# Altium footprint library Molex Footprints.PcbLib: 498 footprints (part 22 of 32)
Each footprint in its own frame and in the unit in brackets; x right, y up, seen from the top. Pads: shape width x height; smd on the part's side, far side on the other; paste and mask are expansions set on the pad; w line width, h text height; cw(c..) or ccw(c..) is an arc to the next point about the centre after c.
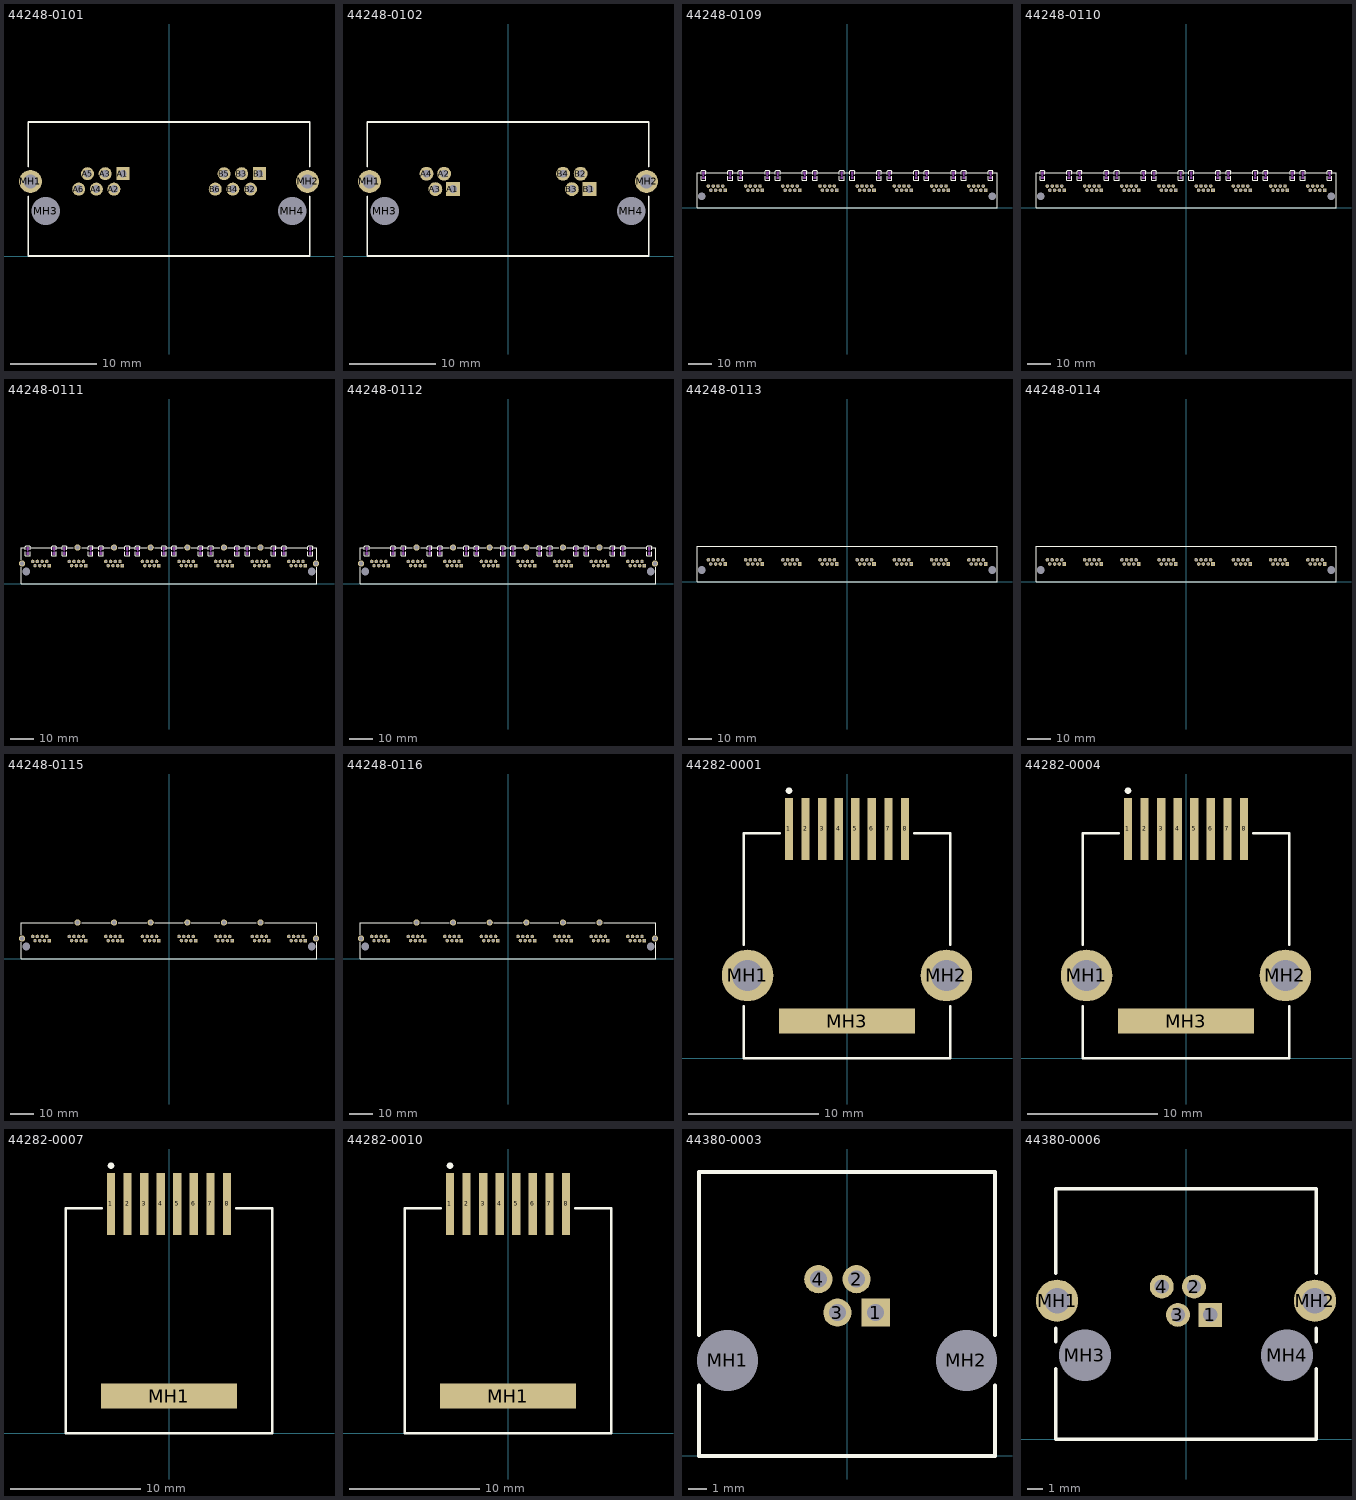
[diagram p21: the footprints below, top view; thin cyan lines are the x and y axes]

## 44248-0101 [mm] "Connector; PCB Jack, Thru-Hole; 2-Port, 6 Positions, 6 Loaded; Shielded without Lightpipes; Right Angle"
height 13.45
pads (16):
  rect 1.5x1.5 hole 0.9: A1(-5.334,9.498) B1(10.414,9.498)
  round 1.5 hole 0.9: A2(-6.35,7.72) A3(-7.366,9.498) A4(-8.382,7.72) A5(-9.398,9.498) A6(-10.414,7.72) B2(9.398,7.72) B3(8.382,9.498) B4(7.366,7.72) B5(6.35,9.498) B6(5.334,7.72)
  round 2.65 hole 1.6: MH1(-15.977,8.609) MH2(15.977,8.609)
  round 2.95 hole 3.25 unplated: MH3(-14.224,5.18) MH4(14.224,5.18)
Top Overlay:
  lines w0.2: -16.249,6.906 -16.249,0 16.249,0 16.249,6.906 ; -16.249,10.312 -16.249,15.47 16.249,15.47 16.249,10.312

## 44248-0102 [mm] "Connector; PCB Jack, Thru-Hole; 2-Port, 6 Positions, 4 Loaded; Shielded without Lightpipes; Right Angle"
height 13.45
pads (12):
  rect 1.6x1.6 hole 0.9: A1(-6.35,7.72) B1(9.398,7.72)
  round 1.6 hole 0.9: A2(-7.366,9.498) A3(-8.382,7.72) A4(-9.398,9.498) B2(8.382,9.498) B3(7.366,7.72) B4(6.35,9.498)
  round 2.65 hole 1.6: MH1(-15.977,8.609) MH2(15.977,8.609)
  round 2.95 hole 3.25 unplated: MH3(-14.224,5.18) MH4(14.224,5.18)
Top Overlay:
  lines w0.2: -16.249,6.906 -16.249,0 16.249,0 16.249,6.906 ; -16.249,10.312 -16.249,15.47 16.249,15.47 16.249,10.312

## 44248-0109 [mm] "Connector; PCB Jack, Thru-Hole; 8-Port, 8 Positions, 8 Loaded; Unshielded with Lightpipes; Right Angle"
height 13.21
pads (66):
  rect 1.5x1.5 hole 0.9: A1(-51.562,7.49) B1(-35.814,7.49) C1(-20.066,7.49) D1(-4.318,7.49) E1(11.43,7.49) F1(27.178,7.49) G1(42.926,7.49) H1(58.674,7.49)
  round 1.5 hole 0.9: A2(-52.578,9.268) A3(-53.594,7.49) A4(-54.61,9.268) A5(-55.626,7.49) A6(-56.642,9.268) A7(-57.658,7.49) A8(-58.674,9.268) B2(-36.83,9.268) B3(-37.846,7.49) B4(-38.862,9.268) B5(-39.878,7.49) B6(-40.894,9.268) B7(-41.91,7.49) B8(-42.926,9.268) C2(-21.082,9.268) C3(-22.098,7.49) C4(-23.114,9.268) C5(-24.13,7.49) C6(-25.146,9.268) C7(-26.162,7.49) C8(-27.178,9.268) D2(-5.334,9.268) D3(-6.35,7.49) D4(-7.366,9.268) D5(-8.382,7.49) D6(-9.398,9.268) D7(-10.414,7.49) D8(-11.43,9.268) E2(10.414,9.268) E3(9.398,7.49) E4(8.382,9.268) E5(7.366,7.49) E6(6.35,9.268) E7(5.334,7.49) E8(4.318,9.268) F2(26.162,9.268) F3(25.146,7.49) F4(24.13,9.268) F5(23.114,7.49) F6(22.098,9.268) F7(21.082,7.49) F8(20.066,9.268) G2(41.91,9.268) G3(40.894,7.49) G4(39.878,9.268) G5(38.862,7.49) G6(37.846,9.268) G7(36.83,7.49) G8(35.814,9.268) H2(57.658,9.268) H3(56.642,7.49) H4(55.626,9.268) H5(54.61,7.49) H6(53.594,9.268) H7(52.578,7.49) H8(51.562,9.268)
  round 2.95 hole 3.25 unplated: MH1(-61.468,4.95) MH2(61.468,4.95)
Top Overlay:
  lines w0.2: -61.782,13.348 -61.782,11.748 -59.782,11.748 -59.782,13.348 ; -61.782,14.231 -61.782,15.631 -61.382,16.031 -60.182,16.031 -59.782,15.631 -59.782,14.231 ; -61.782,14.99 -63.493,14.99 -63.493,0 63.493,0 63.493,14.99 61.782,14.99 ; -59.782,14.99 -50.454,14.99 ; -50.454,13.348 -50.454,11.748 -48.454,11.748 -48.454,13.348 ; -50.454,14.231 -50.454,15.631 -50.054,16.031 -48.854,16.031 -48.454,15.631 -48.454,14.231 ; -48.454,14.99 -46.034,14.99 ; -46.034,13.348 -46.034,11.748 -44.034,11.748 -44.034,13.348 ; -46.034,14.231 -46.034,15.631 -45.634,16.031 -44.434,16.031 -44.034,15.631 -44.034,14.231 ; -44.034,14.99 -34.706,14.99 ; -34.706,13.348 -34.706,11.748 -32.706,11.748 -32.706,13.348 ; -34.706,14.231 -34.706,15.631 -34.306,16.031 -33.106,16.031 -32.706,15.631 -32.706,14.231 ; -32.706,14.99 -30.286,14.99 ; -30.286,13.348 -30.286,11.748 -28.286,11.748 -28.286,13.348 ; -30.286,14.231 -30.286,15.631 -29.886,16.031 -28.686,16.031 -28.286,15.631 -28.286,14.231 ; -28.286,14.99 -18.958,14.99 ; -18.958,13.348 -18.958,11.748 -16.958,11.748 -16.958,13.348 ; -18.958,14.231 -18.958,15.631 -18.558,16.031 -17.358,16.031 -16.958,15.631 -16.958,14.231 ; -16.958,14.99 -14.538,14.99 ; -14.538,13.348 -14.538,11.748 -12.538,11.748 -12.538,13.348 ; -14.538,14.231 -14.538,15.631 -14.138,16.031 -12.938,16.031 -12.538,15.631 -12.538,14.231 ; -12.538,14.99 -3.21,14.99 ; -3.21,13.348 -3.21,11.748 -1.21,11.748 -1.21,13.348 ; -3.21,14.231 -3.21,15.631 -2.81,16.031 -1.61,16.031 -1.21,15.631 -1.21,14.231 ; -1.21,14.99 1.21,14.99 ; 1.21,13.348 1.21,11.748 3.21,11.748 3.21,13.348 ; 1.21,14.231 1.21,15.631 1.61,16.031 2.81,16.031 3.21,15.631 3.21,14.231 ; 3.21,14.99 12.538,14.99 ; 12.538,13.348 12.538,11.748 14.538,11.748 14.538,13.348 ; 12.538,14.231 12.538,15.631 12.938,16.031 14.138,16.031 14.538,15.631 14.538,14.231 ; 14.538,14.99 16.958,14.99 ; 16.958,13.348 16.958,11.748 18.958,11.748 18.958,13.348 ; 16.958,14.231 16.958,15.631 17.358,16.031 18.558,16.031 18.958,15.631 18.958,14.231 ; 18.958,14.99 28.286,14.99 ; 28.286,13.348 28.286,11.748 30.286,11.748 30.286,13.348 ; 28.286,14.231 28.286,15.631 28.686,16.031 29.886,16.031 30.286,15.631 30.286,14.231 ; 30.286,14.99 32.706,14.99 ; 32.706,13.348 32.706,11.748 34.706,11.748 34.706,13.348 ; 32.706,14.231 32.706,15.631 33.106,16.031 34.306,16.031 34.706,15.631 34.706,14.231 ; 34.706,14.99 44.034,14.99 ; 44.034,13.348 44.034,11.748 46.034,11.748 46.034,13.348 ; 44.034,14.231 44.034,15.631 44.434,16.031 45.634,16.031 46.034,15.631 46.034,14.231 ; 46.034,14.99 48.454,14.99 ; 48.454,13.348 48.454,11.748 50.454,11.748 50.454,13.348 ; 48.454,14.231 48.454,15.631 48.854,16.031 50.054,16.031 50.454,15.631 50.454,14.231 ; 50.454,14.99 59.782,14.99 ; 59.782,13.348 59.782,11.748 61.782,11.748 61.782,13.348 ; 59.782,14.231 59.782,15.631 60.182,16.031 61.382,16.031 61.782,15.631 61.782,14.231
Mechanical 1:
  rectangle: 60.182,14.231 61.382,15.431
  rectangle: 60.182,12.148 61.382,13.348
  rectangle: 48.854,14.231 50.054,15.431
  rectangle: 48.854,12.148 50.054,13.348
  rectangle: 44.434,14.231 45.634,15.431
  rectangle: 44.434,12.148 45.634,13.348
  rectangle: 33.106,14.231 34.306,15.431
  rectangle: 33.106,12.148 34.306,13.348
  rectangle: 28.686,14.231 29.886,15.431
  rectangle: 28.686,12.148 29.886,13.348
  rectangle: 17.358,14.231 18.558,15.431
  rectangle: 17.358,12.148 18.558,13.348
  rectangle: 12.938,14.231 14.138,15.431
  rectangle: 12.938,12.148 14.138,13.348
  rectangle: 1.61,14.231 2.81,15.431
  rectangle: 1.61,12.148 2.81,13.348
  rectangle: -2.81,14.231 -1.61,15.431
  rectangle: -2.81,12.148 -1.61,13.348
  rectangle: -14.138,14.231 -12.938,15.431
  rectangle: -14.138,12.148 -12.938,13.348
  rectangle: -18.558,14.231 -17.358,15.431
  rectangle: -18.558,12.148 -17.358,13.348
  rectangle: -29.886,14.231 -28.686,15.431
  rectangle: -29.886,12.148 -28.686,13.348
  rectangle: -34.306,14.231 -33.106,15.431
  rectangle: -34.306,12.148 -33.106,13.348
  rectangle: -45.634,14.231 -44.434,15.431
  rectangle: -45.634,12.148 -44.434,13.348
  rectangle: -50.054,14.231 -48.854,15.431
  rectangle: -50.054,12.148 -48.854,13.348
  rectangle: -61.382,14.231 -60.182,15.431
  rectangle: -61.382,12.148 -60.182,13.348
  lines w0.1: -60.982,13.789 -60.782,13.789 ; -60.782,13.589 -60.782,13.789 ; -60.782,13.989 -60.782,13.789 ; -60.582,13.789 -60.782,13.789 ; -49.654,13.789 -49.454,13.789 ; -49.454,13.589 -49.454,13.789 ; -49.454,13.989 -49.454,13.789 ; -49.254,13.789 -49.454,13.789 ; -45.234,13.789 -45.034,13.789 ; -45.034,13.589 -45.034,13.789 ; -45.034,13.989 -45.034,13.789 ; -44.834,13.789 -45.034,13.789 ; -33.906,13.789 -33.706,13.789 ; -33.706,13.589 -33.706,13.789 ; -33.706,13.989 -33.706,13.789 ; -33.506,13.789 -33.706,13.789 ; -29.486,13.789 -29.286,13.789 ; -29.286,13.589 -29.286,13.789 ; -29.286,13.989 -29.286,13.789 ; -29.086,13.789 -29.286,13.789 ; -18.158,13.789 -17.958,13.789 ; -17.958,13.589 -17.958,13.789 ; -17.958,13.989 -17.958,13.789 ; -17.758,13.789 -17.958,13.789 ; -13.738,13.789 -13.538,13.789 ; -13.538,13.589 -13.538,13.789 ; -13.538,13.989 -13.538,13.789 ; -13.338,13.789 -13.538,13.789 ; -2.41,13.789 -2.21,13.789 ; -2.21,13.589 -2.21,13.789 ; -2.21,13.989 -2.21,13.789 ; -2.01,13.789 -2.21,13.789 ; 2.01,13.789 2.21,13.789 ; 2.21,13.589 2.21,13.789 ; 2.21,13.989 2.21,13.789 ; 2.41,13.789 2.21,13.789 ; 13.338,13.789 13.538,13.789 ; 13.538,13.589 13.538,13.789 ; 13.538,13.989 13.538,13.789 ; 13.738,13.789 13.538,13.789 ; 17.758,13.789 17.958,13.789 ; 17.958,13.589 17.958,13.789 ; 17.958,13.989 17.958,13.789 ; 18.158,13.789 17.958,13.789 ; 29.086,13.789 29.286,13.789 ; 29.286,13.589 29.286,13.789 ; 29.286,13.989 29.286,13.789 ; 29.486,13.789 29.286,13.789 ; 33.506,13.789 33.706,13.789 ; 33.706,13.589 33.706,13.789 ; 33.706,13.989 33.706,13.789 ; 33.906,13.789 33.706,13.789 ; 44.834,13.789 45.034,13.789 ; 45.034,13.589 45.034,13.789 ; 45.034,13.989 45.034,13.789 ; 45.234,13.789 45.034,13.789 ; 49.254,13.789 49.454,13.789 ; 49.454,13.589 49.454,13.789 ; 49.454,13.989 49.454,13.789 ; 49.654,13.789 49.454,13.789 ; 60.582,13.789 60.782,13.789 ; 60.782,13.589 60.782,13.789 ; 60.782,13.989 60.782,13.789 ; 60.982,13.789 60.782,13.789

## 44248-0110 [mm] "Connector; PCB Jack, Thru-Hole; 8-Port, 8 Positions, 8 Loaded; Unshielded with Lightpipes; Right Angle"
height 13.21
pads (66):
  rect 1.5x1.5 hole 0.9: A1(-51.562,7.49) B1(-35.814,7.49) C1(-20.066,7.49) D1(-4.318,7.49) E1(11.43,7.49) F1(27.178,7.49) G1(42.926,7.49) H1(58.674,7.49)
  round 1.5 hole 0.9: A2(-52.578,9.268) A3(-53.594,7.49) A4(-54.61,9.268) A5(-55.626,7.49) A6(-56.642,9.268) A7(-57.658,7.49) A8(-58.674,9.268) B2(-36.83,9.268) B3(-37.846,7.49) B4(-38.862,9.268) B5(-39.878,7.49) B6(-40.894,9.268) B7(-41.91,7.49) B8(-42.926,9.268) C2(-21.082,9.268) C3(-22.098,7.49) C4(-23.114,9.268) C5(-24.13,7.49) C6(-25.146,9.268) C7(-26.162,7.49) C8(-27.178,9.268) D2(-5.334,9.268) D3(-6.35,7.49) D4(-7.366,9.268) D5(-8.382,7.49) D6(-9.398,9.268) D7(-10.414,7.49) D8(-11.43,9.268) E2(10.414,9.268) E3(9.398,7.49) E4(8.382,9.268) E5(7.366,7.49) E6(6.35,9.268) E7(5.334,7.49) E8(4.318,9.268) F2(26.162,9.268) F3(25.146,7.49) F4(24.13,9.268) F5(23.114,7.49) F6(22.098,9.268) F7(21.082,7.49) F8(20.066,9.268) G2(41.91,9.268) G3(40.894,7.49) G4(39.878,9.268) G5(38.862,7.49) G6(37.846,9.268) G7(36.83,7.49) G8(35.814,9.268) H2(57.658,9.268) H3(56.642,7.49) H4(55.626,9.268) H5(54.61,7.49) H6(53.594,9.268) H7(52.578,7.49) H8(51.562,9.268)
  round 2.95 hole 3.25 unplated: MH1(-61.468,4.95) MH2(61.468,4.95)
Top Overlay:
  lines w0.2: -61.782,13.348 -61.782,11.748 -59.782,11.748 -59.782,13.348 ; -61.782,14.231 -61.782,15.631 -61.382,16.031 -60.182,16.031 -59.782,15.631 -59.782,14.231 ; -61.782,14.99 -63.493,14.99 -63.493,0 63.493,0 63.493,14.99 61.782,14.99 ; -59.782,14.99 -50.454,14.99 ; -50.454,13.348 -50.454,11.748 -48.454,11.748 -48.454,13.348 ; -50.454,14.231 -50.454,15.631 -50.054,16.031 -48.854,16.031 -48.454,15.631 -48.454,14.231 ; -48.454,14.99 -46.034,14.99 ; -46.034,13.348 -46.034,11.748 -44.034,11.748 -44.034,13.348 ; -46.034,14.231 -46.034,15.631 -45.634,16.031 -44.434,16.031 -44.034,15.631 -44.034,14.231 ; -44.034,14.99 -34.706,14.99 ; -34.706,13.348 -34.706,11.748 -32.706,11.748 -32.706,13.348 ; -34.706,14.231 -34.706,15.631 -34.306,16.031 -33.106,16.031 -32.706,15.631 -32.706,14.231 ; -32.706,14.99 -30.286,14.99 ; -30.286,13.348 -30.286,11.748 -28.286,11.748 -28.286,13.348 ; -30.286,14.231 -30.286,15.631 -29.886,16.031 -28.686,16.031 -28.286,15.631 -28.286,14.231 ; -28.286,14.99 -18.958,14.99 ; -18.958,13.348 -18.958,11.748 -16.958,11.748 -16.958,13.348 ; -18.958,14.231 -18.958,15.631 -18.558,16.031 -17.358,16.031 -16.958,15.631 -16.958,14.231 ; -16.958,14.99 -14.538,14.99 ; -14.538,13.348 -14.538,11.748 -12.538,11.748 -12.538,13.348 ; -14.538,14.231 -14.538,15.631 -14.138,16.031 -12.938,16.031 -12.538,15.631 -12.538,14.231 ; -12.538,14.99 -3.21,14.99 ; -3.21,13.348 -3.21,11.748 -1.21,11.748 -1.21,13.348 ; -3.21,14.231 -3.21,15.631 -2.81,16.031 -1.61,16.031 -1.21,15.631 -1.21,14.231 ; -1.21,14.99 1.21,14.99 ; 1.21,13.348 1.21,11.748 3.21,11.748 3.21,13.348 ; 1.21,14.231 1.21,15.631 1.61,16.031 2.81,16.031 3.21,15.631 3.21,14.231 ; 3.21,14.99 12.538,14.99 ; 12.538,13.348 12.538,11.748 14.538,11.748 14.538,13.348 ; 12.538,14.231 12.538,15.631 12.938,16.031 14.138,16.031 14.538,15.631 14.538,14.231 ; 14.538,14.99 16.958,14.99 ; 16.958,13.348 16.958,11.748 18.958,11.748 18.958,13.348 ; 16.958,14.231 16.958,15.631 17.358,16.031 18.558,16.031 18.958,15.631 18.958,14.231 ; 18.958,14.99 28.286,14.99 ; 28.286,13.348 28.286,11.748 30.286,11.748 30.286,13.348 ; 28.286,14.231 28.286,15.631 28.686,16.031 29.886,16.031 30.286,15.631 30.286,14.231 ; 30.286,14.99 32.706,14.99 ; 32.706,13.348 32.706,11.748 34.706,11.748 34.706,13.348 ; 32.706,14.231 32.706,15.631 33.106,16.031 34.306,16.031 34.706,15.631 34.706,14.231 ; 34.706,14.99 44.034,14.99 ; 44.034,13.348 44.034,11.748 46.034,11.748 46.034,13.348 ; 44.034,14.231 44.034,15.631 44.434,16.031 45.634,16.031 46.034,15.631 46.034,14.231 ; 46.034,14.99 48.454,14.99 ; 48.454,13.348 48.454,11.748 50.454,11.748 50.454,13.348 ; 48.454,14.231 48.454,15.631 48.854,16.031 50.054,16.031 50.454,15.631 50.454,14.231 ; 50.454,14.99 59.782,14.99 ; 59.782,13.348 59.782,11.748 61.782,11.748 61.782,13.348 ; 59.782,14.231 59.782,15.631 60.182,16.031 61.382,16.031 61.782,15.631 61.782,14.231
Mechanical 1:
  rectangle: 60.182,14.231 61.382,15.431
  rectangle: 60.182,12.148 61.382,13.348
  rectangle: 48.854,14.231 50.054,15.431
  rectangle: 48.854,12.148 50.054,13.348
  rectangle: 44.434,14.231 45.634,15.431
  rectangle: 44.434,12.148 45.634,13.348
  rectangle: 33.106,14.231 34.306,15.431
  rectangle: 33.106,12.148 34.306,13.348
  rectangle: 28.686,14.231 29.886,15.431
  rectangle: 28.686,12.148 29.886,13.348
  rectangle: 17.358,14.231 18.558,15.431
  rectangle: 17.358,12.148 18.558,13.348
  rectangle: 12.938,14.231 14.138,15.431
  rectangle: 12.938,12.148 14.138,13.348
  rectangle: 1.61,14.231 2.81,15.431
  rectangle: 1.61,12.148 2.81,13.348
  rectangle: -2.81,14.231 -1.61,15.431
  rectangle: -2.81,12.148 -1.61,13.348
  rectangle: -14.138,14.231 -12.938,15.431
  rectangle: -14.138,12.148 -12.938,13.348
  rectangle: -18.558,14.231 -17.358,15.431
  rectangle: -18.558,12.148 -17.358,13.348
  rectangle: -29.886,14.231 -28.686,15.431
  rectangle: -29.886,12.148 -28.686,13.348
  rectangle: -34.306,14.231 -33.106,15.431
  rectangle: -34.306,12.148 -33.106,13.348
  rectangle: -45.634,14.231 -44.434,15.431
  rectangle: -45.634,12.148 -44.434,13.348
  rectangle: -50.054,14.231 -48.854,15.431
  rectangle: -50.054,12.148 -48.854,13.348
  rectangle: -61.382,14.231 -60.182,15.431
  rectangle: -61.382,12.148 -60.182,13.348
  lines w0.1: -60.982,13.789 -60.782,13.789 ; -60.782,13.589 -60.782,13.789 ; -60.782,13.989 -60.782,13.789 ; -60.582,13.789 -60.782,13.789 ; -49.654,13.789 -49.454,13.789 ; -49.454,13.589 -49.454,13.789 ; -49.454,13.989 -49.454,13.789 ; -49.254,13.789 -49.454,13.789 ; -45.234,13.789 -45.034,13.789 ; -45.034,13.589 -45.034,13.789 ; -45.034,13.989 -45.034,13.789 ; -44.834,13.789 -45.034,13.789 ; -33.906,13.789 -33.706,13.789 ; -33.706,13.589 -33.706,13.789 ; -33.706,13.989 -33.706,13.789 ; -33.506,13.789 -33.706,13.789 ; -29.486,13.789 -29.286,13.789 ; -29.286,13.589 -29.286,13.789 ; -29.286,13.989 -29.286,13.789 ; -29.086,13.789 -29.286,13.789 ; -18.158,13.789 -17.958,13.789 ; -17.958,13.589 -17.958,13.789 ; -17.958,13.989 -17.958,13.789 ; -17.758,13.789 -17.958,13.789 ; -13.738,13.789 -13.538,13.789 ; -13.538,13.589 -13.538,13.789 ; -13.538,13.989 -13.538,13.789 ; -13.338,13.789 -13.538,13.789 ; -2.41,13.789 -2.21,13.789 ; -2.21,13.589 -2.21,13.789 ; -2.21,13.989 -2.21,13.789 ; -2.01,13.789 -2.21,13.789 ; 2.01,13.789 2.21,13.789 ; 2.21,13.589 2.21,13.789 ; 2.21,13.989 2.21,13.789 ; 2.41,13.789 2.21,13.789 ; 13.338,13.789 13.538,13.789 ; 13.538,13.589 13.538,13.789 ; 13.538,13.989 13.538,13.789 ; 13.738,13.789 13.538,13.789 ; 17.758,13.789 17.958,13.789 ; 17.958,13.589 17.958,13.789 ; 17.958,13.989 17.958,13.789 ; 18.158,13.789 17.958,13.789 ; 29.086,13.789 29.286,13.789 ; 29.286,13.589 29.286,13.789 ; 29.286,13.989 29.286,13.789 ; 29.486,13.789 29.286,13.789 ; 33.506,13.789 33.706,13.789 ; 33.706,13.589 33.706,13.789 ; 33.706,13.989 33.706,13.789 ; 33.906,13.789 33.706,13.789 ; 44.834,13.789 45.034,13.789 ; 45.034,13.589 45.034,13.789 ; 45.034,13.989 45.034,13.789 ; 45.234,13.789 45.034,13.789 ; 49.254,13.789 49.454,13.789 ; 49.454,13.589 49.454,13.789 ; 49.454,13.989 49.454,13.789 ; 49.654,13.789 49.454,13.789 ; 60.582,13.789 60.782,13.789 ; 60.782,13.589 60.782,13.789 ; 60.782,13.989 60.782,13.789 ; 60.982,13.789 60.782,13.789

## 44248-0111 [mm] "Connector; PCB Jack, Thru-Hole; 8-Port, 8 Positions, 8 Loaded; Shielded with Lightpipes; Right Angle"
height 13.45
pads (74):
  rect 1.5x1.5 hole 0.9: A1(-51.562,7.72) B1(-35.814,7.72) C1(-20.066,7.72) D1(-4.318,7.72) E1(11.43,7.72) F1(27.178,7.72) G1(42.926,7.72) H1(58.674,7.72)
  round 1.5 hole 0.9: A2(-52.578,9.498) A3(-53.594,7.72) A4(-54.61,9.498) A5(-55.626,7.72) A6(-56.642,9.498) A7(-57.658,7.72) A8(-58.674,9.498) B2(-36.83,9.498) B3(-37.846,7.72) B4(-38.862,9.498) B5(-39.878,7.72) B6(-40.894,9.498) B7(-41.91,7.72) B8(-42.926,9.498) C2(-21.082,9.498) C3(-22.098,7.72) C4(-23.114,9.498) C5(-24.13,7.72) C6(-25.146,9.498) C7(-26.162,7.72) C8(-27.178,9.498) D2(-5.334,9.498) D3(-6.35,7.72) D4(-7.366,9.498) D5(-8.382,7.72) D6(-9.398,9.498) D7(-10.414,7.72) D8(-11.43,9.498) E2(10.414,9.498) E3(9.398,7.72) E4(8.382,9.498) E5(7.366,7.72) E6(6.35,9.498) E7(5.334,7.72) E8(4.318,9.498) F2(26.162,9.498) F3(25.146,7.72) F4(24.13,9.498) F5(23.114,7.72) F6(22.098,9.498) F7(21.082,7.72) F8(20.066,9.498) G2(41.91,9.498) G3(40.894,7.72) G4(39.878,9.498) G5(38.862,7.72) G6(37.846,9.498) G7(36.83,7.72) G8(35.814,9.498) H2(57.658,9.498) H3(56.642,7.72) H4(55.626,9.498) H5(54.61,7.72) H6(53.594,9.498) H7(52.578,7.72) H8(51.562,9.498)
  round 2.65 hole 1.6: MH1(-63.221,8.609) MH2(-39.37,15.492) MH3(-23.622,15.492) MH4(-7.874,15.492) MH5(7.874,15.492) MH6(23.622,15.492) MH7(39.37,15.492) MH8(63.221,8.609)
  round 2.95 hole 3.25 unplated: MH9(-61.468,5.18) MH10(61.468,5.18)
Top Overlay:
  drawing of 156 lines, arcs and shapes, not listed
Mechanical 1:
  rectangle: -61.382,12.378 -60.182,13.578
  rectangle: -61.382,14.461 -60.182,15.661
  rectangle: -50.054,12.378 -48.854,13.578
  rectangle: -50.054,14.461 -48.854,15.661
  rectangle: -45.634,12.378 -44.434,13.578
  rectangle: -45.634,14.461 -44.434,15.661
  rectangle: -34.306,12.378 -33.106,13.578
  rectangle: -34.306,14.461 -33.106,15.661
  rectangle: -29.886,12.378 -28.686,13.578
  rectangle: -29.886,14.461 -28.686,15.661
  rectangle: -18.558,12.378 -17.358,13.578
  rectangle: -18.558,14.461 -17.358,15.661
  rectangle: -14.138,12.378 -12.938,13.578
  rectangle: -14.138,14.461 -12.938,15.661
  rectangle: -2.81,12.378 -1.61,13.578
  rectangle: -2.81,14.461 -1.61,15.661
  rectangle: 1.61,12.378 2.81,13.578
  rectangle: 1.61,14.461 2.81,15.661
  rectangle: 12.938,12.378 14.138,13.578
  rectangle: 12.938,14.461 14.138,15.661
  rectangle: 17.358,12.378 18.558,13.578
  rectangle: 17.358,14.461 18.558,15.661
  rectangle: 28.686,12.378 29.886,13.578
  rectangle: 28.686,14.461 29.886,15.661
  rectangle: 33.106,12.378 34.306,13.578
  rectangle: 33.106,14.461 34.306,15.661
  rectangle: 44.434,12.378 45.634,13.578
  rectangle: 44.434,14.461 45.634,15.661
  rectangle: 48.854,12.378 50.054,13.578
  rectangle: 48.854,14.461 50.054,15.661
  rectangle: 60.182,12.378 61.382,13.578
  rectangle: 60.182,14.461 61.382,15.661
  lines w0.1: -60.982,14.019 -60.782,14.019 ; -60.782,13.819 -60.782,14.019 ; -60.782,14.219 -60.782,14.019 ; -60.582,14.019 -60.782,14.019 ; -49.654,14.019 -49.454,14.019 ; -49.454,13.819 -49.454,14.019 ; -49.454,14.219 -49.454,14.019 ; -49.254,14.019 -49.454,14.019 ; -45.234,14.019 -45.034,14.019 ; -45.034,13.819 -45.034,14.019 ; -45.034,14.219 -45.034,14.019 ; -44.834,14.019 -45.034,14.019 ; -33.906,14.019 -33.706,14.019 ; -33.706,13.819 -33.706,14.019 ; -33.706,14.219 -33.706,14.019 ; -33.506,14.019 -33.706,14.019 ; -29.486,14.019 -29.286,14.019 ; -29.286,13.819 -29.286,14.019 ; -29.286,14.219 -29.286,14.019 ; -29.086,14.019 -29.286,14.019 ; -18.158,14.019 -17.958,14.019 ; -17.958,13.819 -17.958,14.019 ; -17.958,14.219 -17.958,14.019 ; -17.758,14.019 -17.958,14.019 ; -13.738,14.019 -13.538,14.019 ; -13.538,13.819 -13.538,14.019 ; -13.538,14.219 -13.538,14.019 ; -13.338,14.019 -13.538,14.019 ; -2.41,14.019 -2.21,14.019 ; -2.21,13.819 -2.21,14.019 ; -2.21,14.219 -2.21,14.019 ; -2.01,14.019 -2.21,14.019 ; 2.01,14.019 2.21,14.019 ; 2.21,13.819 2.21,14.019 ; 2.21,14.219 2.21,14.019 ; 2.41,14.019 2.21,14.019 ; 13.338,14.019 13.538,14.019 ; 13.538,13.819 13.538,14.019 ; 13.538,14.219 13.538,14.019 ; 13.738,14.019 13.538,14.019 ; 17.758,14.019 17.958,14.019 ; 17.958,13.819 17.958,14.019 ; 17.958,14.219 17.958,14.019 ; 18.158,14.019 17.958,14.019 ; 29.086,14.019 29.286,14.019 ; 29.286,13.819 29.286,14.019 ; 29.286,14.219 29.286,14.019 ; 29.486,14.019 29.286,14.019 ; 33.506,14.019 33.706,14.019 ; 33.706,13.819 33.706,14.019 ; 33.706,14.219 33.706,14.019 ; 33.906,14.019 33.706,14.019 ; 44.834,14.019 45.034,14.019 ; 45.034,13.819 45.034,14.019 ; 45.034,14.219 45.034,14.019 ; 45.234,14.019 45.034,14.019 ; 49.254,14.019 49.454,14.019 ; 49.454,13.819 49.454,14.019 ; 49.454,14.219 49.454,14.019 ; 49.654,14.019 49.454,14.019 ; 60.582,14.019 60.782,14.019 ; 60.782,13.819 60.782,14.019 ; 60.782,14.219 60.782,14.019 ; 60.982,14.019 60.782,14.019

## 44248-0112 [mm] "Connector; PCB Jack, Thru-Hole; 8-Port, 8 Positions, 8 Loaded; Shielded with Lightpipes; Right Angle"
height 13.45
pads (74):
  rect 1.5x1.5 hole 0.9: A1(-51.562,7.72) B1(-35.814,7.72) C1(-20.066,7.72) D1(-4.318,7.72) E1(11.43,7.72) F1(27.178,7.72) G1(42.926,7.72) H1(58.674,7.72)
  round 1.5 hole 0.9: A2(-52.578,9.498) A3(-53.594,7.72) A4(-54.61,9.498) A5(-55.626,7.72) A6(-56.642,9.498) A7(-57.658,7.72) A8(-58.674,9.498) B2(-36.83,9.498) B3(-37.846,7.72) B4(-38.862,9.498) B5(-39.878,7.72) B6(-40.894,9.498) B7(-41.91,7.72) B8(-42.926,9.498) C2(-21.082,9.498) C3(-22.098,7.72) C4(-23.114,9.498) C5(-24.13,7.72) C6(-25.146,9.498) C7(-26.162,7.72) C8(-27.178,9.498) D2(-5.334,9.498) D3(-6.35,7.72) D4(-7.366,9.498) D5(-8.382,7.72) D6(-9.398,9.498) D7(-10.414,7.72) D8(-11.43,9.498) E2(10.414,9.498) E3(9.398,7.72) E4(8.382,9.498) E5(7.366,7.72) E6(6.35,9.498) E7(5.334,7.72) E8(4.318,9.498) F2(26.162,9.498) F3(25.146,7.72) F4(24.13,9.498) F5(23.114,7.72) F6(22.098,9.498) F7(21.082,7.72) F8(20.066,9.498) G2(41.91,9.498) G3(40.894,7.72) G4(39.878,9.498) G5(38.862,7.72) G6(37.846,9.498) G7(36.83,7.72) G8(35.814,9.498) H2(57.658,9.498) H3(56.642,7.72) H4(55.626,9.498) H5(54.61,7.72) H6(53.594,9.498) H7(52.578,7.72) H8(51.562,9.498)
  round 2.65 hole 1.6: MH1(-63.221,8.609) MH2(-39.37,15.492) MH3(-23.622,15.492) MH4(-7.874,15.492) MH5(7.874,15.492) MH6(23.622,15.492) MH7(39.37,15.492) MH8(63.221,8.609)
  round 2.95 hole 3.25 unplated: MH9(-61.468,5.18) MH10(61.468,5.18)
Top Overlay:
  drawing of 156 lines, arcs and shapes, not listed
Mechanical 1:
  rectangle: -61.382,12.378 -60.182,13.578
  rectangle: -61.382,14.461 -60.182,15.661
  rectangle: -50.054,12.378 -48.854,13.578
  rectangle: -50.054,14.461 -48.854,15.661
  rectangle: -45.634,12.378 -44.434,13.578
  rectangle: -45.634,14.461 -44.434,15.661
  rectangle: -34.306,12.378 -33.106,13.578
  rectangle: -34.306,14.461 -33.106,15.661
  rectangle: -29.886,12.378 -28.686,13.578
  rectangle: -29.886,14.461 -28.686,15.661
  rectangle: -18.558,12.378 -17.358,13.578
  rectangle: -18.558,14.461 -17.358,15.661
  rectangle: -14.138,12.378 -12.938,13.578
  rectangle: -14.138,14.461 -12.938,15.661
  rectangle: -2.81,12.378 -1.61,13.578
  rectangle: -2.81,14.461 -1.61,15.661
  rectangle: 1.61,12.378 2.81,13.578
  rectangle: 1.61,14.461 2.81,15.661
  rectangle: 12.938,12.378 14.138,13.578
  rectangle: 12.938,14.461 14.138,15.661
  rectangle: 17.358,12.378 18.558,13.578
  rectangle: 17.358,14.461 18.558,15.661
  rectangle: 28.686,12.378 29.886,13.578
  rectangle: 28.686,14.461 29.886,15.661
  rectangle: 33.106,12.378 34.306,13.578
  rectangle: 33.106,14.461 34.306,15.661
  rectangle: 44.434,12.378 45.634,13.578
  rectangle: 44.434,14.461 45.634,15.661
  rectangle: 48.854,12.378 50.054,13.578
  rectangle: 48.854,14.461 50.054,15.661
  rectangle: 60.182,12.378 61.382,13.578
  rectangle: 60.182,14.461 61.382,15.661
  lines w0.1: -60.982,14.019 -60.782,14.019 ; -60.782,13.819 -60.782,14.019 ; -60.782,14.219 -60.782,14.019 ; -60.582,14.019 -60.782,14.019 ; -49.654,14.019 -49.454,14.019 ; -49.454,13.819 -49.454,14.019 ; -49.454,14.219 -49.454,14.019 ; -49.254,14.019 -49.454,14.019 ; -45.234,14.019 -45.034,14.019 ; -45.034,13.819 -45.034,14.019 ; -45.034,14.219 -45.034,14.019 ; -44.834,14.019 -45.034,14.019 ; -33.906,14.019 -33.706,14.019 ; -33.706,13.819 -33.706,14.019 ; -33.706,14.219 -33.706,14.019 ; -33.506,14.019 -33.706,14.019 ; -29.486,14.019 -29.286,14.019 ; -29.286,13.819 -29.286,14.019 ; -29.286,14.219 -29.286,14.019 ; -29.086,14.019 -29.286,14.019 ; -18.158,14.019 -17.958,14.019 ; -17.958,13.819 -17.958,14.019 ; -17.958,14.219 -17.958,14.019 ; -17.758,14.019 -17.958,14.019 ; -13.738,14.019 -13.538,14.019 ; -13.538,13.819 -13.538,14.019 ; -13.538,14.219 -13.538,14.019 ; -13.338,14.019 -13.538,14.019 ; -2.41,14.019 -2.21,14.019 ; -2.21,13.819 -2.21,14.019 ; -2.21,14.219 -2.21,14.019 ; -2.01,14.019 -2.21,14.019 ; 2.01,14.019 2.21,14.019 ; 2.21,13.819 2.21,14.019 ; 2.21,14.219 2.21,14.019 ; 2.41,14.019 2.21,14.019 ; 13.338,14.019 13.538,14.019 ; 13.538,13.819 13.538,14.019 ; 13.538,14.219 13.538,14.019 ; 13.738,14.019 13.538,14.019 ; 17.758,14.019 17.958,14.019 ; 17.958,13.819 17.958,14.019 ; 17.958,14.219 17.958,14.019 ; 18.158,14.019 17.958,14.019 ; 29.086,14.019 29.286,14.019 ; 29.286,13.819 29.286,14.019 ; 29.286,14.219 29.286,14.019 ; 29.486,14.019 29.286,14.019 ; 33.506,14.019 33.706,14.019 ; 33.706,13.819 33.706,14.019 ; 33.706,14.219 33.706,14.019 ; 33.906,14.019 33.706,14.019 ; 44.834,14.019 45.034,14.019 ; 45.034,13.819 45.034,14.019 ; 45.034,14.219 45.034,14.019 ; 45.234,14.019 45.034,14.019 ; 49.254,14.019 49.454,14.019 ; 49.454,13.819 49.454,14.019 ; 49.454,14.219 49.454,14.019 ; 49.654,14.019 49.454,14.019 ; 60.582,14.019 60.782,14.019 ; 60.782,13.819 60.782,14.019 ; 60.782,14.219 60.782,14.019 ; 60.982,14.019 60.782,14.019

## 44248-0113 [mm] "Connector; PCB Jack, Thru-Hole; 8-Port, 8 Positions, 8 Loaded; Unshielded without Lightpipes; Right Angle"
height 13.21
pads (66):
  rect 1.5x1.5 hole 0.9: A1(-51.562,7.49) B1(-35.814,7.49) C1(-20.066,7.49) D1(-4.318,7.49) E1(11.43,7.49) F1(27.178,7.49) G1(42.926,7.49) H1(58.674,7.49)
  round 1.5 hole 0.9: A2(-52.578,9.268) A3(-53.594,7.49) A4(-54.61,9.268) A5(-55.626,7.49) A6(-56.642,9.268) A7(-57.658,7.49) A8(-58.674,9.268) B2(-36.83,9.268) B3(-37.846,7.49) B4(-38.862,9.268) B5(-39.878,7.49) B6(-40.894,9.268) B7(-41.91,7.49) B8(-42.926,9.268) C2(-21.082,9.268) C3(-22.098,7.49) C4(-23.114,9.268) C5(-24.13,7.49) C6(-25.146,9.268) C7(-26.162,7.49) C8(-27.178,9.268) D2(-5.334,9.268) D3(-6.35,7.49) D4(-7.366,9.268) D5(-8.382,7.49) D6(-9.398,9.268) D7(-10.414,7.49) D8(-11.43,9.268) E2(10.414,9.268) E3(9.398,7.49) E4(8.382,9.268) E5(7.366,7.49) E6(6.35,9.268) E7(5.334,7.49) E8(4.318,9.268) F2(26.162,9.268) F3(25.146,7.49) F4(24.13,9.268) F5(23.114,7.49) F6(22.098,9.268) F7(21.082,7.49) F8(20.066,9.268) G2(41.91,9.268) G3(40.894,7.49) G4(39.878,9.268) G5(38.862,7.49) G6(37.846,9.268) G7(36.83,7.49) G8(35.814,9.268) H2(57.658,9.268) H3(56.642,7.49) H4(55.626,9.268) H5(54.61,7.49) H6(53.594,9.268) H7(52.578,7.49) H8(51.562,9.268)
  round 2.95 hole 3.25 unplated: MH1(-61.468,4.95) MH2(61.468,4.95)
Top Overlay:
  lines w0.2: -63.493,0 63.493,0 63.493,14.99 -63.493,14.99 -63.493,0

## 44248-0114 [mm] "Connector; PCB Jack, Thru-Hole; 8-Port, 8 Positions, 8 Loaded; Unshielded without Lightpipes; Right Angle"
height 13.21
pads (66):
  rect 1.5x1.5 hole 0.9: A1(-51.562,7.49) B1(-35.814,7.49) C1(-20.066,7.49) D1(-4.318,7.49) E1(11.43,7.49) F1(27.178,7.49) G1(42.926,7.49) H1(58.674,7.49)
  round 1.5 hole 0.9: A2(-52.578,9.268) A3(-53.594,7.49) A4(-54.61,9.268) A5(-55.626,7.49) A6(-56.642,9.268) A7(-57.658,7.49) A8(-58.674,9.268) B2(-36.83,9.268) B3(-37.846,7.49) B4(-38.862,9.268) B5(-39.878,7.49) B6(-40.894,9.268) B7(-41.91,7.49) B8(-42.926,9.268) C2(-21.082,9.268) C3(-22.098,7.49) C4(-23.114,9.268) C5(-24.13,7.49) C6(-25.146,9.268) C7(-26.162,7.49) C8(-27.178,9.268) D2(-5.334,9.268) D3(-6.35,7.49) D4(-7.366,9.268) D5(-8.382,7.49) D6(-9.398,9.268) D7(-10.414,7.49) D8(-11.43,9.268) E2(10.414,9.268) E3(9.398,7.49) E4(8.382,9.268) E5(7.366,7.49) E6(6.35,9.268) E7(5.334,7.49) E8(4.318,9.268) F2(26.162,9.268) F3(25.146,7.49) F4(24.13,9.268) F5(23.114,7.49) F6(22.098,9.268) F7(21.082,7.49) F8(20.066,9.268) G2(41.91,9.268) G3(40.894,7.49) G4(39.878,9.268) G5(38.862,7.49) G6(37.846,9.268) G7(36.83,7.49) G8(35.814,9.268) H2(57.658,9.268) H3(56.642,7.49) H4(55.626,9.268) H5(54.61,7.49) H6(53.594,9.268) H7(52.578,7.49) H8(51.562,9.268)
  round 2.95 hole 3.25 unplated: MH1(-61.468,4.95) MH2(61.468,4.95)
Top Overlay:
  lines w0.2: -63.493,0 63.493,0 63.493,14.99 -63.493,14.99 -63.493,0

## 44248-0115 [mm] "Connector; PCB Jack, Thru-Hole; 8-Port, 8 Positions, 8 Loaded; Shielded without Lightpipes; Right Angle"
height 13.45
pads (74):
  rect 1.5x1.5 hole 0.9: A1(-51.562,7.72) B1(-35.814,7.72) C1(-20.066,7.72) D1(-4.318,7.72) E1(11.43,7.72) F1(27.178,7.72) G1(42.926,7.72) H1(58.674,7.72)
  round 1.5 hole 0.9: A2(-52.578,9.498) A3(-53.594,7.72) A4(-54.61,9.498) A5(-55.626,7.72) A6(-56.642,9.498) A7(-57.658,7.72) A8(-58.674,9.498) B2(-36.83,9.498) B3(-37.846,7.72) B4(-38.862,9.498) B5(-39.878,7.72) B6(-40.894,9.498) B7(-41.91,7.72) B8(-42.926,9.498) C2(-21.082,9.498) C3(-22.098,7.72) C4(-23.114,9.498) C5(-24.13,7.72) C6(-25.146,9.498) C7(-26.162,7.72) C8(-27.178,9.498) D2(-5.334,9.498) D3(-6.35,7.72) D4(-7.366,9.498) D5(-8.382,7.72) D6(-9.398,9.498) D7(-10.414,7.72) D8(-11.43,9.498) E2(10.414,9.498) E3(9.398,7.72) E4(8.382,9.498) E5(7.366,7.72) E6(6.35,9.498) E7(5.334,7.72) E8(4.318,9.498) F2(26.162,9.498) F3(25.146,7.72) F4(24.13,9.498) F5(23.114,7.72) F6(22.098,9.498) F7(21.082,7.72) F8(20.066,9.498) G2(41.91,9.498) G3(40.894,7.72) G4(39.878,9.498) G5(38.862,7.72) G6(37.846,9.498) G7(36.83,7.72) G8(35.814,9.498) H2(57.658,9.498) H3(56.642,7.72) H4(55.626,9.498) H5(54.61,7.72) H6(53.594,9.498) H7(52.578,7.72) H8(51.562,9.498)
  round 2.65 hole 1.6: MH1(-63.221,8.609) MH2(-39.37,15.492) MH3(-23.622,15.492) MH4(-7.874,15.492) MH5(7.874,15.492) MH6(23.622,15.492) MH7(39.37,15.492) MH8(63.221,8.609)
  round 2.95 hole 3.25 unplated: MH9(-61.468,5.18) MH10(61.468,5.18)
Top Overlay:
  lines w0.2: -63.493,6.906 -63.493,0 63.493,0 63.493,6.906 ; -63.493,10.312 -63.493,15.47 -41.095,15.47 ; -37.645,15.47 -25.347,15.47 ; -21.897,15.47 -9.599,15.47 ; -6.149,15.47 6.149,15.47 ; 9.599,15.47 21.897,15.47 ; 25.347,15.47 37.645,15.47 ; 41.095,15.47 63.493,15.47 63.493,10.312

## 44248-0116 [mm] "Connector; PCB Jack, Thru-Hole; 8-Port, 8 Positions, 8 Loaded; Shielded without Lightpipes; Right Angle"
height 13.45
pads (74):
  rect 1.5x1.5 hole 0.9: A1(-51.562,7.72) B1(-35.814,7.72) C1(-20.066,7.72) D1(-4.318,7.72) E1(11.43,7.72) F1(27.178,7.72) G1(42.926,7.72) H1(58.674,7.72)
  round 1.5 hole 0.9: A2(-52.578,9.498) A3(-53.594,7.72) A4(-54.61,9.498) A5(-55.626,7.72) A6(-56.642,9.498) A7(-57.658,7.72) A8(-58.674,9.498) B2(-36.83,9.498) B3(-37.846,7.72) B4(-38.862,9.498) B5(-39.878,7.72) B6(-40.894,9.498) B7(-41.91,7.72) B8(-42.926,9.498) C2(-21.082,9.498) C3(-22.098,7.72) C4(-23.114,9.498) C5(-24.13,7.72) C6(-25.146,9.498) C7(-26.162,7.72) C8(-27.178,9.498) D2(-5.334,9.498) D3(-6.35,7.72) D4(-7.366,9.498) D5(-8.382,7.72) D6(-9.398,9.498) D7(-10.414,7.72) D8(-11.43,9.498) E2(10.414,9.498) E3(9.398,7.72) E4(8.382,9.498) E5(7.366,7.72) E6(6.35,9.498) E7(5.334,7.72) E8(4.318,9.498) F2(26.162,9.498) F3(25.146,7.72) F4(24.13,9.498) F5(23.114,7.72) F6(22.098,9.498) F7(21.082,7.72) F8(20.066,9.498) G2(41.91,9.498) G3(40.894,7.72) G4(39.878,9.498) G5(38.862,7.72) G6(37.846,9.498) G7(36.83,7.72) G8(35.814,9.498) H2(57.658,9.498) H3(56.642,7.72) H4(55.626,9.498) H5(54.61,7.72) H6(53.594,9.498) H7(52.578,7.72) H8(51.562,9.498)
  round 2.65 hole 1.6: MH1(-63.221,8.609) MH2(-39.37,15.492) MH3(-23.622,15.492) MH4(-7.874,15.492) MH5(7.874,15.492) MH6(23.622,15.492) MH7(39.37,15.492) MH8(63.221,8.609)
  round 2.95 hole 3.25 unplated: MH9(-61.468,5.18) MH10(61.468,5.18)
Top Overlay:
  lines w0.2: -63.493,6.906 -63.493,0 63.493,0 63.493,6.906 ; -63.493,10.312 -63.493,15.47 -41.095,15.47 ; -37.645,15.47 -25.347,15.47 ; -21.897,15.47 -9.599,15.47 ; -6.149,15.47 6.149,15.47 ; 9.599,15.47 21.897,15.47 ; 25.347,15.47 37.645,15.47 ; 41.095,15.47 63.493,15.47 63.493,10.312

## 44282-0001 [mil] "Connector; PCB Jack, SM; 1-Port, 8 Positions, 8 Loaded; Shielded without Lightpipes; Right Angle"
height 529.53
pads (11):
  rect 25x187 smd: 1(-175,692.5) 2(-125,692.5) 3(-75,692.5) 4(-25,692.5) 5(25,692.5) 6(75,692.5) 7(125,692.5) 8(175,692.5)
  round 155.51 hole 94.49: MH1(-300,250) MH2(300,250)
  rect 410x75 smd: MH3(0,112.5)
Top Overlay:
  circle w9.84: c-175,807.65 r4.92
  lines w7.87: -312,157.28 -312,0 312,0 312,157.28 ; -312,342.72 -312,679 -203.25,679 ; 203.25,679 312,679 312,342.72

## 44282-0004 [mil] "Connector; PCB Jack, SM; 1-Port, 8 Positions, 8 Loaded; Shielded without Lightpipes; Right Angle"
height 529.53
pads (11):
  rect 25x187 smd: 1(-175,692.5) 2(-125,692.5) 3(-75,692.5) 4(-25,692.5) 5(25,692.5) 6(75,692.5) 7(125,692.5) 8(175,692.5)
  round 155.51 hole 94.49: MH1(-300,250) MH2(300,250)
  rect 410x75 smd: MH3(0,112.5)
Top Overlay:
  circle w9.84: c-175,807.65 r4.92
  lines w7.87: -312,157.28 -312,0 312,0 312,157.28 ; -312,342.72 -312,679 -203.25,679 ; 203.25,679 312,679 312,342.72

## 44282-0007 [mil] "Connector; PCB Jack, SM; 1-Port, 8 Positions, 8 Loaded; Shielded without Lightpipes; Right Angle"
height 529.53
pads (9):
  rect 25x187 smd: 1(-175,692.5) 2(-125,692.5) 3(-75,692.5) 4(-25,692.5) 5(25,692.5) 6(75,692.5) 7(125,692.5) 8(175,692.5)
  rect 410x75 smd: MH1(0,112.5)
Top Overlay:
  circle w9.84: c-175,807.65 r4.92
  lines w7.87: -203.25,679 -312,679 -312,0 312,0 312,679 203.25,679

## 44282-0010 [mil] "Connector; PCB Jack, SM; 1-Port, 8 Positions, 8 Loaded; Shielded without Lightpipes; Right Angle"
height 529.53
pads (9):
  rect 25x187 smd: 1(-175,692.5) 2(-125,692.5) 3(-75,692.5) 4(-25,692.5) 5(25,692.5) 6(75,692.5) 7(125,692.5) 8(175,692.5)
  rect 410x75 smd: MH1(0,112.5)
Top Overlay:
  circle w9.84: c-175,807.65 r4.92
  lines w7.87: -203.25,679 -312,679 -312,0 312,0 312,679 203.25,679

## 44380-0003 [mm] "Connector; PCB Jack, Thru-Hole; 1-Port, 6 Positions, 4 Loaded; Unshielded without Lightpipes; Right Angle"
height 13.21
pads (6):
  rect 1.5x1.5 hole 0.9: 1(1.524,7.62)
  round 1.5 hole 0.9: 2(0.508,9.398) 3(-0.508,7.62) 4(-1.524,9.398)
  round 2.95 hole 3.25 unplated: MH1(-6.35,5.08) MH2(6.35,5.08)
Top Overlay:
  lines w0.2: -7.875,3.748 -7.875,0 7.875,0 7.875,3.748 ; -7.875,6.412 -7.875,15.09 7.875,15.09 7.875,6.412

## 44380-0006 [mm] "Connector; PCB Jack, Thru-Hole; 1-Port, 6 Positions, 4 Loaded; Shielded without Lightpipes; Right Angle"
height 13.53
pads (8):
  rect 1.5x1.5 hole 0.9: 1(1.524,7.82)
  round 1.5 hole 0.9: 2(0.508,9.598) 3(-0.508,7.82) 4(-1.524,9.598)
  round 2.65 hole 1.6: MH1(-8.103,8.709) MH2(8.103,8.709)
  round 2.95 hole 3.25 unplated: MH3(-6.35,5.28) MH4(6.35,5.28)
Top Overlay:
  lines w0.2: -8.19,4.434 -8.19,0 8.19,0 8.19,4.434 ; -8.19,6.126 -8.19,6.986 ; -8.19,10.432 -8.19,15.75 8.19,15.75 8.19,10.432 ; 8.19,6.126 8.19,6.986